# Altium schematic symbol library Connectors.SchLib: 25 symbols
Pins are listed as number, name and electrical type; pins without a type are passive.

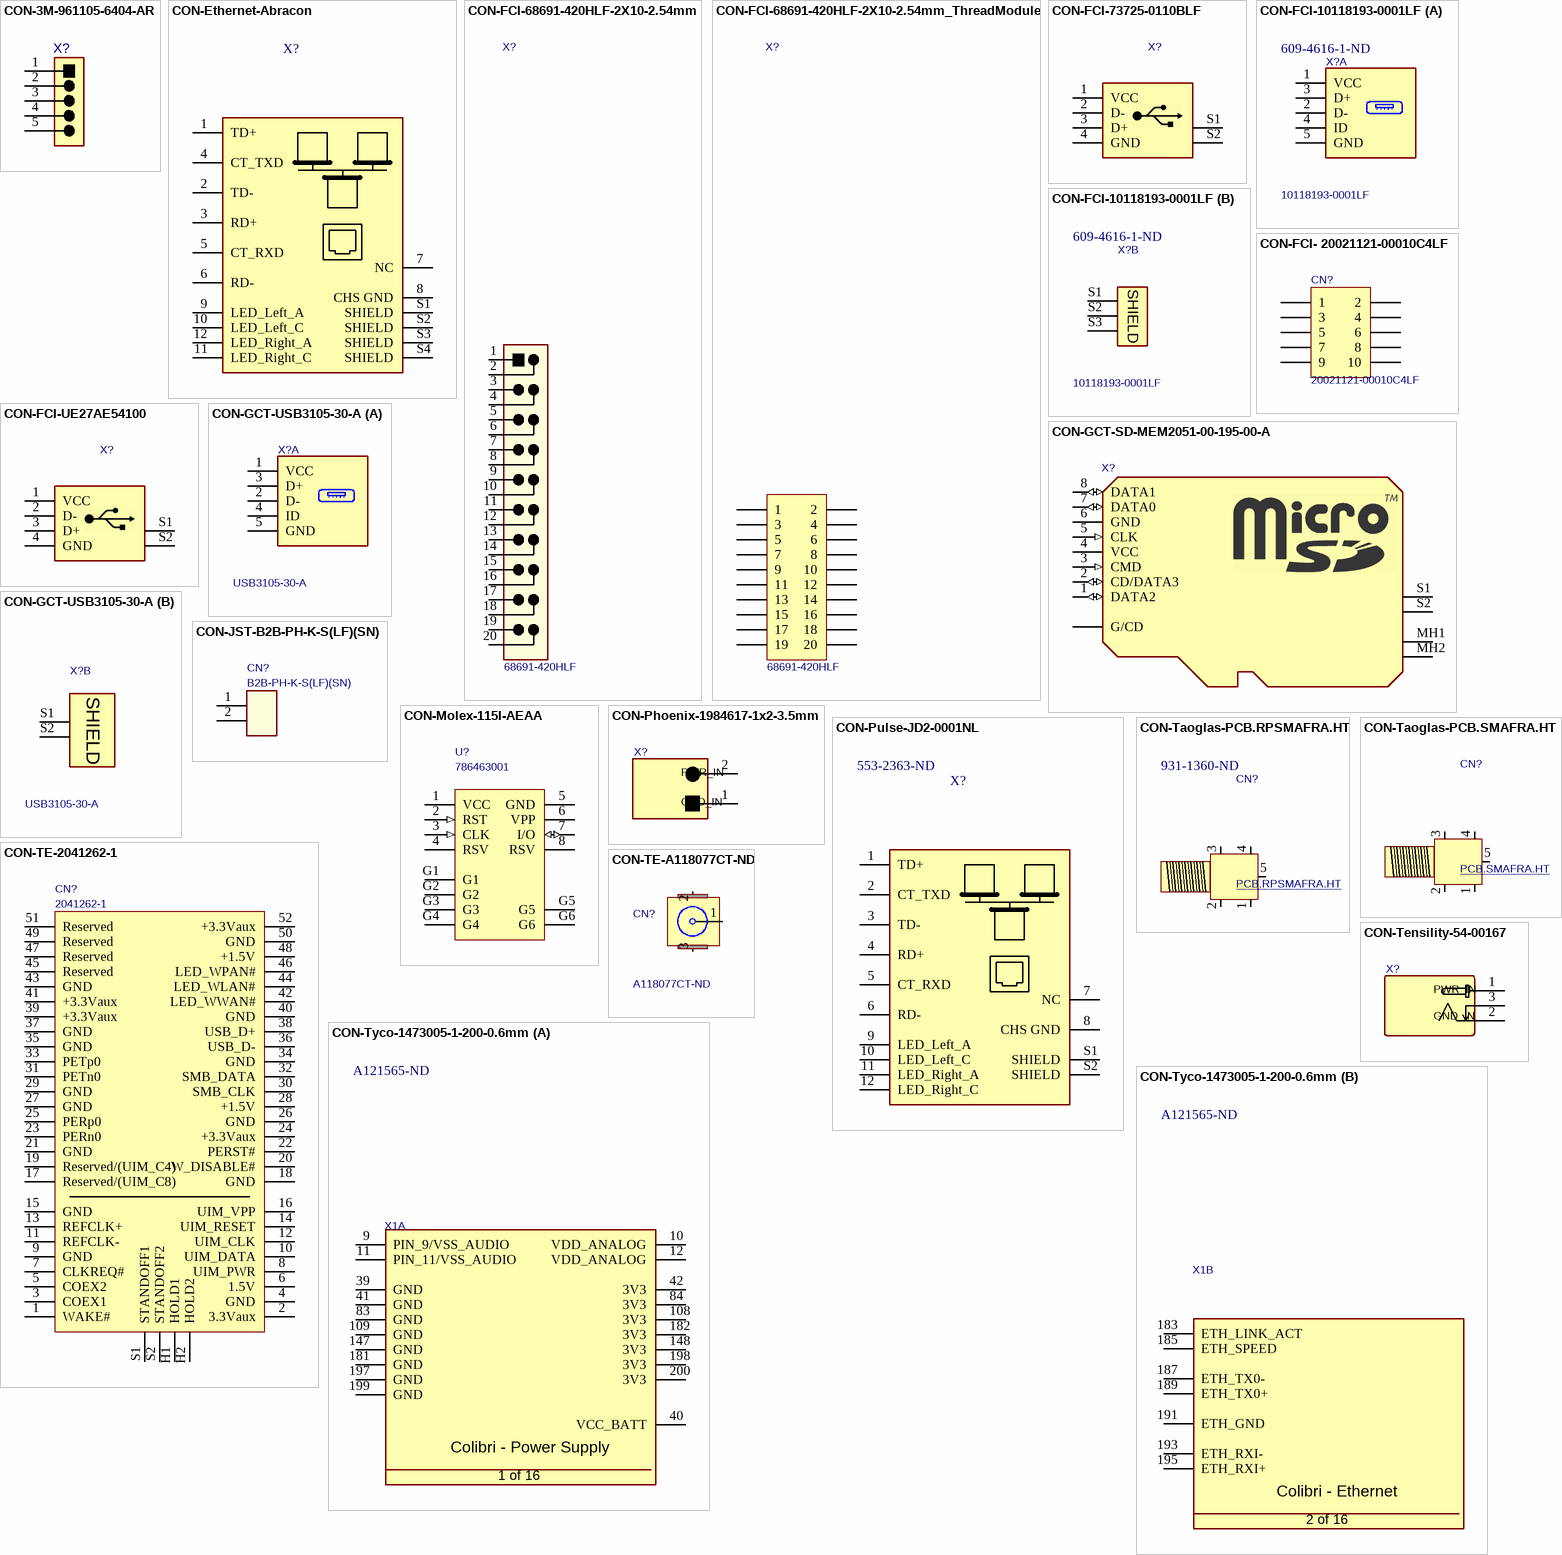
[diagram p0: symbols CON-3M-961105-6404-AR to CON-Tyco-1473005-1-200-0.6mm]

## CON-3M-961105-6404-AR
designator X?, comment 961105-6404-AR  (value not drawn)
Audio Header 5 pins 2.54mm; Manufacturer Name: 3M; No. of ways: 1X5; Pitch: 2.54mm; Supplier 1: Digi-Key; Supplier Part Number 1: 3M9457-05-ND; Manufacturer Part No.: 961105-6404-AR
footprint T_3M_961105-6404-AR (Connector; Header; 35 Position)
pins: 1, 2, 3, 4, 5

## CON-Ethernet-Abracon
designator X?, comment ARJM11C7-009-AB-ER2-T  (value not drawn)
1 Port RJ45 Magjack Connector Through Hole 10/100 Base-T, AutoMDIX; Manufacturer Name: Abracon; Manufacturer Part No.: ARJM11C7-009-AB-ER2-T; Symbol Checked: -; Footprint Checked: -; Supplier 1: Digi-Key; Supplier 2: Digi-Key; Supplier Part Number 1: 535-14134-1-ND; Supplier Part Number 2: 535-14135-1-ND
footprint T_PULSE_J00-0065NL (RJ45 Connector)
pins: 1 TD+, 2 TD-, 3 RD+, 4 CT_TXD, 5 CT_RXD, 6 RD-, 7 NC, 8 CHS GND, 9 LED_Left_A, 10 LED_Left_C, 11 LED_Right_C, 12 LED_Right_A, S1 SHIELD, S2 SHIELD, S3 SHIELD, S4 SHIELD

## CON-FCI-68691-420HLF-2X10-2.54mm
designator X?, comment 68691-420HLF
Connector Header Through Hole 20 position 0.100" (2.54mm); Manufacturer Name: FCI; No. of ways: 2X20; Supplier 1: Digi-Key; Supplier Part Number 1: 609-6378-ND; Manufacturer Part No.: 68691-420HLF
footprint T_JVE_21B22564-40S10B-01G (Header 2x20)
pins: 1, 2, 3, 4, 5, 6, 7, 8, 9, 10, 11, 12, 13, 14, 15, 16, 17, 18, 19, 20

## CON-FCI-68691-420HLF-2X10-2.54mm_ThreadModule
designator X?, comment 68691-420HLF
Connector Header Through Hole 20 position 0.100" (2.54mm); Manufacturer Name: FCI; No. of ways: 2X20; Supplier 1: Digi-Key; Supplier Part Number 1: 609-6378-ND; Manufacturer Part No.: 68691-420HLF
footprint T_JVE_21B22564-40S10B-01G - ThreadModule (Header 2x20)
pins: 1, 2, 3, 4, 5, 6, 7, 8, 9, 10, 11, 12, 13, 14, 15, 16, 17, 18, 19, 20

## CON-FCI-73725-0110BLF
designator X?, comment 73725-0110BLF  (value not drawn)
USB Type A Connector; Manufacturer Name: FCI; No. of ways: 4; Supplier 1: Digi-Key; Manufacturer Part No.: 73725-0110BLF; Supplier Part Number 1: 609-1041-ND
footprint T_FCI_73725-0110BLF (USB Type A Connector Vertical)
pins: 1 VCC (power), 2 D-, 3 D+, 4 GND (power), S1, S2

## CON-FCI-10118193-0001LF
designator X?, comment 10118193-0001LF  Supplier Part Number 1: 609-4616-1-ND
CONN RCPT USB2.0 MICRO B SMD R/A; Manufacturer Name: FCI; No. of ways: 5; Manufacturer Part No.: 10118193-0001LF; Supplier 1: Digi-Key
footprint CON-FCI-10118193-0001LF (USB - micro AB USB 2.0, 5 Position, Surface Mount, Right Angle, Horizontal)
part A pins: 1 VCC (power), 2 D-, 3 D+, 4 ID, 5 GND (power)
part B pins: S1 SHIELD, S2 SHIELD, S3 SHIELD

## CON-FCI- 20021121-00010C4LF
designator CN?, comment 20021121-00010C4LF
Connector Header Surface Mount 10 position 0.050" (1.27mm); Symbol Checked: Ok; MFG: Amphenol ICC (FCI); FP_DESC: Header, Male pins, 2x5, 0.1", Vertical; Replacement Allowed: Yes; Footprint Checked: Assign OK, Footprint OK; MFG_PN: 20021121-00010C4LF; Supplier 1: Digi-Key; Supplier Part Number 1: 609-3695-1-ND
footprint HDR2x5-0.1" (TH FEMALE PIN H8.1 P2.54)
pins: 1, 2, 3, 4, 5, 6, 7, 8, 9, 10

## CON-FCI-UE27AE54100
designator X?, comment UE27AE54100  (value not drawn)
USB Type A Connector; Manufacturer Name: FCI; No. of ways: 4; Manufacturer Part No.: UE27AE54100; Supplier 1: Digi-Key; Supplier Part Number 1: UE27AE54100-ND
footprint T_FCI_UE27AE54100 (USB Type A Connector Vertical)
pins: 1 VCC (power), 2 D-, 3 D+, 4 GND (power), S1, S2

## CON-GCT-SD-MEM2051-00-195-00-A
designator X?, comment MEM2051-00-195-00-A  (value not drawn)
9 (8 + 1) Position Card Connector microSD™ Surface Mount, Right Angle Gold; No. of ways: 9; MFG: GCT; MFG_PN: MEM2051-00-195-00-A; Footprint Checked: -; Symbol Checked: -; Supplier 1: Digi-Key; Supplier Part Number 1: 2073-MEM2051-00-195-00-ACT-ND
footprint 101-00660-68-6+MEM2051-00-195-00-A_REVC (FCI microSD connector)
pins: 1 DATA2 (io), 2 CD/DATA3 (io), 3 CMD (in), 4 VCC, 5 CLK (in), 6 GND (power), 7 DATA0 (io), 8 DATA1 (io), G1 G/CD, MH1 S, MH2 S, S1, S2

## CON-GCT-USB3105-30-A
designator X?, comment USB3105-30-A
Micro USB OTG Connector - TH - Vertical; Manufacturer Name: GCT; No. of ways: 5; Supplier 1: Digi-Key; Supplier 2: Digi-Key; Supplier 3: Digi-Key; Supplier Part Number 1: 2073-USB3105-30-ADKR-ND; Supplier Part Number 2: 2073-USB3105-30-ATR-ND; Supplier Part Number 3: 2073-USB3105-30-ACT-ND; Manufacturer Part No.: USB3105-30-A
footprint T_GCT_USB3105-30-A (Micro USB Connector Vertical)
part A pins: 1 VCC (power), 2 D-, 3 D+, 4 ID, 5 GND (power)
part B pins: S1 SHIELD, S2 SHIELD

## CON-JST-B2B-PH-K-S(LF)(SN)
designator CN?, comment B2B-PH-K-S(LF)(SN)
Connector Header Through Hole 2 position 0.079" (2.00mm); MFG: JST; FP_DESC: Header, Male pins, 1x2, 2mm, Vertical; Symbol Checked: Ok; Replacement Allowed: Ask; MFG_PN: B2B-PH-K-S(LF)(SN); Footprint Checked: Assign OK, Footprint OK; Supplier 1: Digi-Key; Supplier Part Number 1: 455-1704-ND
footprint B2B-PH-K-S(LF)(SN) - duplicate
pins: 1, 2

## CON-Molex-115I-AEAA
designator U?, comment 786463001
Mixro SIM Card Push-Pull; FP_DESC: microSIM card holder; MFG: MOLEX; Symbol Checked: Ok; Replacement Allowed: Ask; MFG_PN: 786463001; Footprint Checked: Assign OK, Footprint OK; Supplier 1: Digi-Key; Supplier Part Number 1: WM9364CT-ND
footprint 786463001
pins: 1 VCC (power), 2 RST (in), 3 CLK (in), 4 RSV, 5 GND (power), 6 VPP (power), 7 I/O (io), 8 RSV, G1, G2, G3, G4, G5, G6

## CON-Phoenix-1984617-1x2-3.5mm
designator X?, comment 1984617  (value not drawn)
2 Position Wire to Board Terminal Block Horizontal with Board 0.138" (3.50mm) Through Hole; Manufacturer Name: Phoenix Contact; No. of ways: 1x2; Pitch: 3.5mm; Manufacturer Part No.: 1984617; Supplier 1: Digi-Key; Supplier Part Number 1: 277-1721-ND
footprint TERM-BLK-3.5MM
pins: 1 GND_IN, 2 PWR_IN

## CON-Pulse-JD2-0001NL
designator X?, comment Supplier Part Number 1: 553-2363-ND  (hidden comment: JD2-0001NL)
1 Port RJ45 Magjack Connector Through Hole 10/100 Base-TX, AutoMDIX; Manufacturer Name: Pulse Electronics Network; Manufacturer Part No.: J00-0065NL; Symbol Checked: -; Footprint Checked: -; Supplier 1: Digi-Key
footprint T_PULSE_JD2-0001NL (RJ45 Connector)
pins: 1 TD+, 2 CT_TXD, 3 TD-, 4 RD+, 5 CT_RXD, 6 RD-, 7 NC, 8 CHS GND, 9 LED_Left_A, 10 LED_Left_C, 11 LED_Right_A, 12 LED_Right_C, S1 SHIELD, S2 SHIELD

## CON-Taoglas-PCB.RPSMAFRA.HT
designator CN?, comment PCB.RPSMAFRA.HT  Supplier Part Number 1: 931-1360-ND
RP-SMA Conector Jack, clavija macho 50Ohm Orificio pasante, ángulo recto Soldadura; FP_DESC: SMA, Right angle; MFG: Taoglas Limited; Symbol Checked: Ok; Replacement Allowed: Ask; Footprint Checked: Assign OK, Footprint OK; MFG_PN: PCB.RPSMAFRA.HT; Supplier 1: Digi-Key
footprint 0733910320 (RPSMA)
pins: 1 GND, 2 GND, 3 GND, 4 GND, 5 SIG

## CON-Taoglas-PCB.SMAFRA.HT
designator CN?, comment PCB.SMAFRA.HT
SMA Connector Jack, Female Socket 50Ohm Through Hole, Right Angle Solder; FP_DESC: SMA, Right angle; MFG: Taoglas Limited; Symbol Checked: Ok; Replacement Allowed: Ask; Footprint Checked: Assign OK, Footprint OK; Supplier 1: Digi-Key; Supplier Part Number 1: 931-1361-ND; MFG_PN: PCB.SMAFRA.HT
footprint 0733910320 (RPSMA)
pins: 1 GND, 2 GND, 3 GND, 4 GND, 5 SIG

## CON-TE-2041262-1
designator CN?, comment 2041262-1
52 Position Female Connector PCI Express Mini Card Gold 0.031" (0.80mm) Black; FP_DESC: miniPCIe; MFG: TE; Replacement Allowed: Ask; MFG_PN: 2041262-1; Footprint Checked: -; Symbol Checked: -; ComponentLink1Description: BG95; ComponentLink1URL: https://www.quectel.com/UploadImage/Downlad/Quectel_BG95-M3_Mini_PCIe_Hardware_Design_V1.0.pdf; Supplier 1: Digi-Key; Supplier Part Number 1: A125147CT-ND
footprint 2041262-1
pins: 1 WAKE#, 2 3.3Vaux, 3 COEX1, 4 GND, 5 COEX2, 6 1.5V, 7 CLKREQ#, 8 UIM_PWR, 9 GND, 10 UIM_DATA, 11 REFCLK-, 12 UIM_CLK, 13 REFCLK+, 14 UIM_RESET, 15 GND, 16 UIM_VPP, 17 Reserved/(UIM_C8), 18 GND, 19 Reserved/(UIM_C4), 20 W_DISABLE#, 21 GND, 22 PERST#, 23 PERn0, 24 +3.3Vaux, 25 PERp0, 26 GND, 27 GND, 28 +1.5V, 29 GND, 30 SMB_CLK, 31 PETn0, 32 SMB_DATA, 33 PETp0, 34 GND, 35 GND, 36 USB_D-, 37 GND, 38 USB_D+, 39 +3.3Vaux, 40 GND, 41 +3.3Vaux, 42 LED_WWAN#, 43 GND, 44 LED_WLAN#, 45 Reserved, 46 LED_WPAN#, 47 Reserved, 48 +1.5V, 49 Reserved, 50 GND, 51 Reserved, 52 +3.3Vaux, H1 HOLD1, H2 HOLD2, S1 STANDOFF1, S2 STANDOFF2

## CON-TE-A118077CT-ND
designator CN?, comment A118077CT-ND
U.FL (UMCC) Connector Jack, Male Pin 50Ohm Surface Mount Solder; MFG: TE Connectivity AMP Connectors; FP_DESC: U.FL connector; Symbol Checked: Ok; Replacement Allowed: Ask; MFG_PN: A118077CT-ND; Footprint Checked: Assign OK, Footprint OK; Supplier 1: Digi-Key; Supplier Part Number 1: A118077DKR-ND
footprint U.FL-R-SMT-1
pins: 1 SIG, 2 GND, 3 GND

## CON-Tensility-54-00167
designator X?, comment 54-00167  (value not drawn)
Power Barrel Connector Jack 2.50mm ID (0.098"), 5.50mm OD (0.217") Through Hole, Right Angle; Manufacturer Name: Tensility International Corp; Manufacturer Part No.: 54-00167; Supplier 1: Digi-Key; Supplier Part Number 1: 839-54-00167-ND
footprint PJ-002A
pins: 1 GND_IN, 2 PWR_IN, 3 PWR_IN

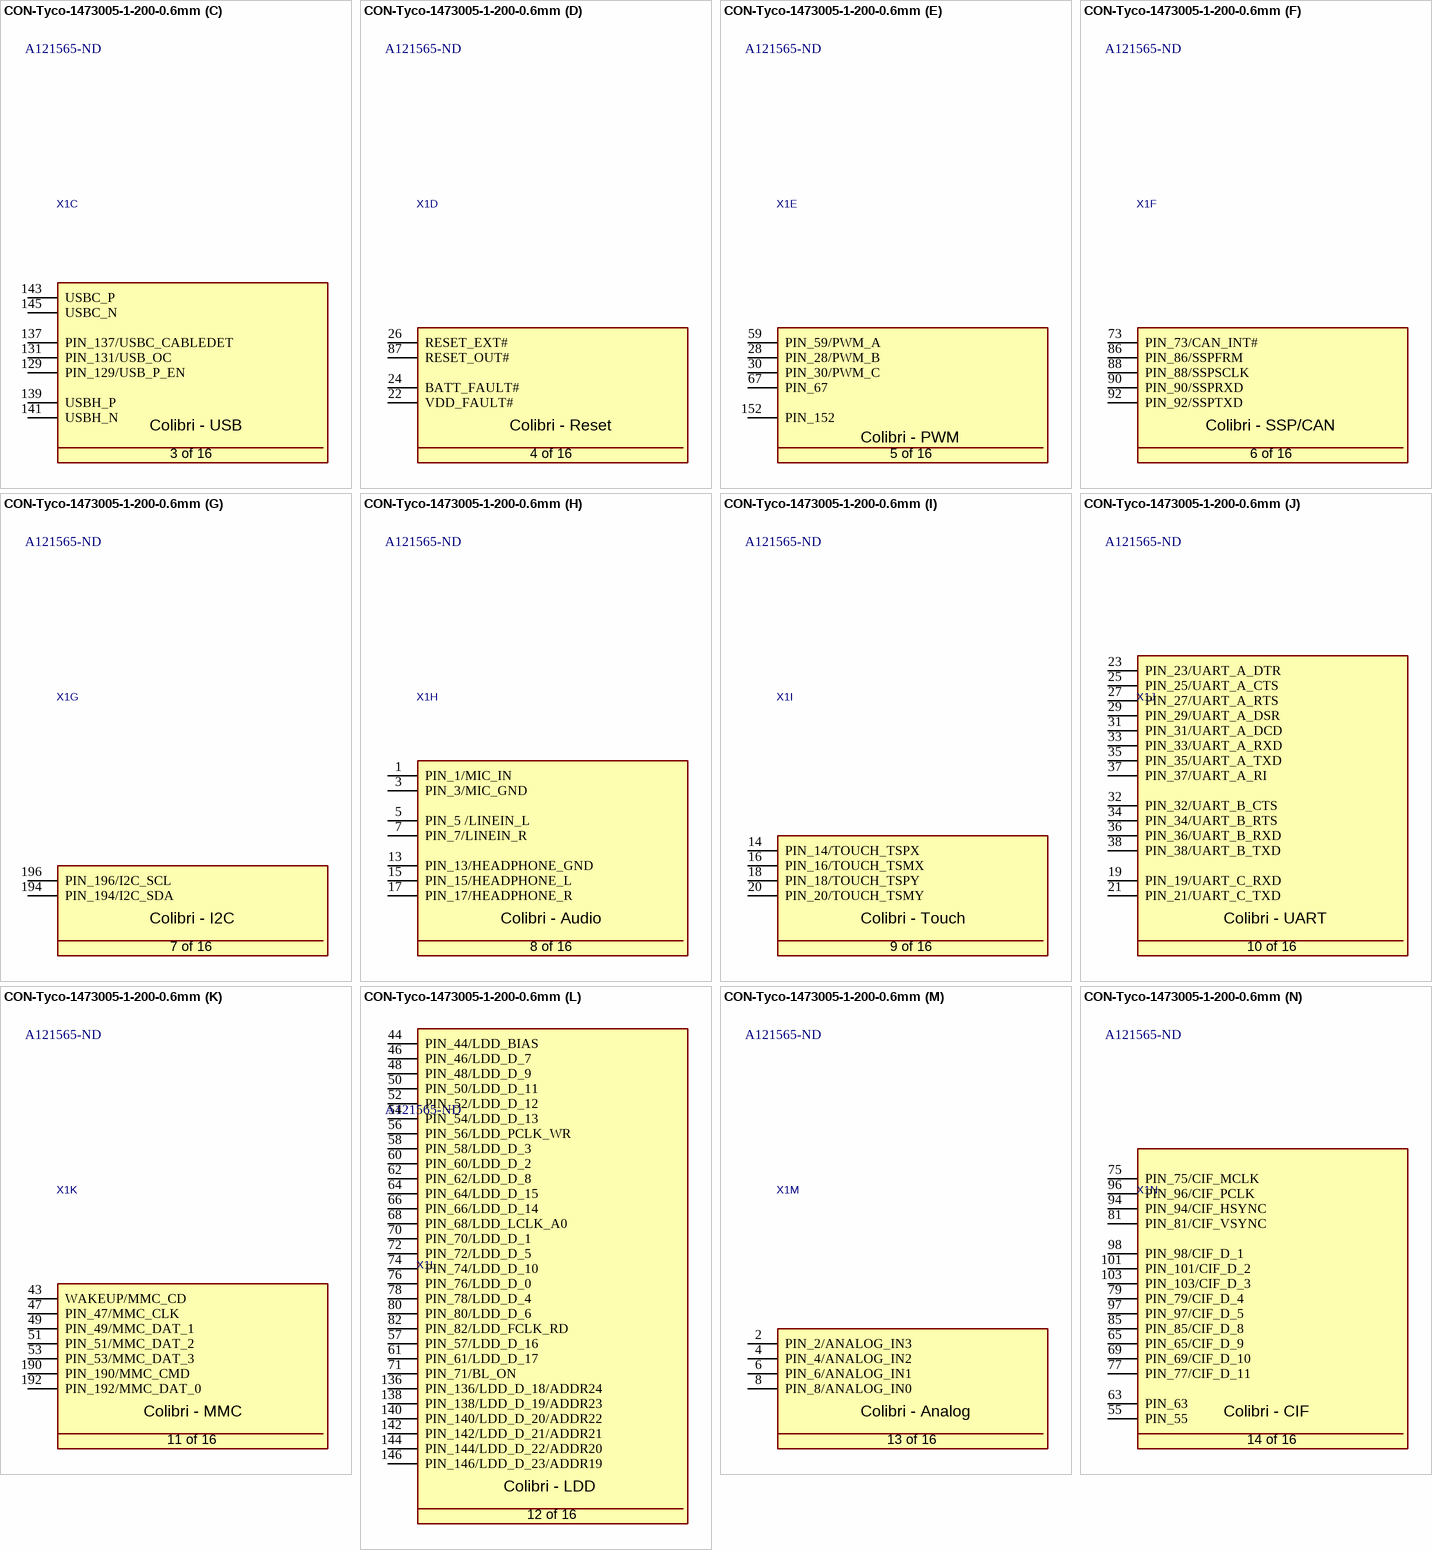
[diagram p1: symbol CON-Tyco-1473005-1-200-0.6mm]

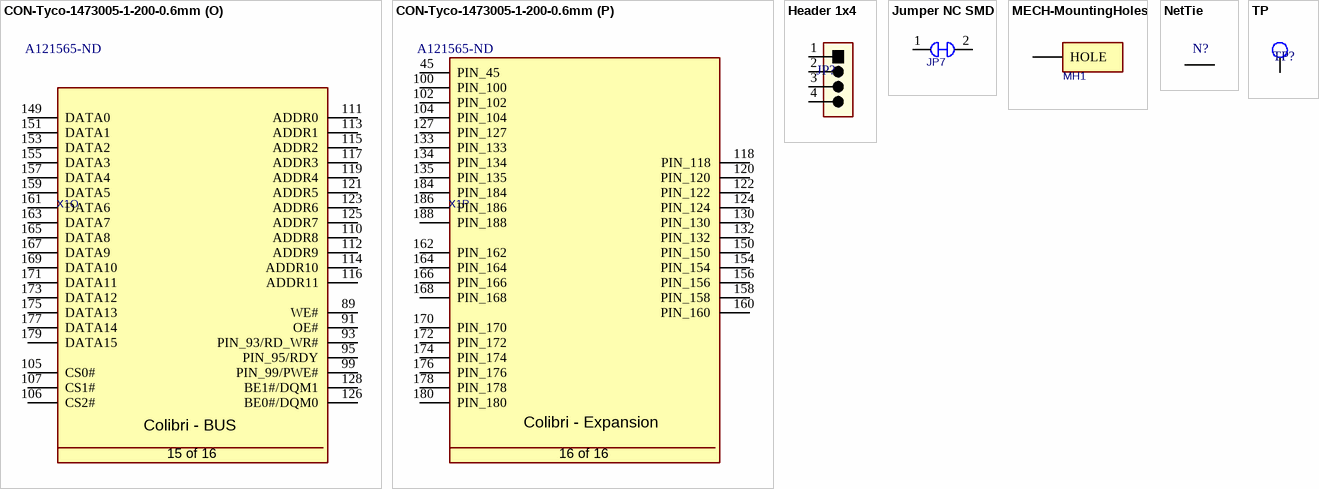
[diagram p2: symbols CON-Tyco-1473005-1-200-0.6mm to TP]

## CON-Tyco-1473005-1-200-0.6mm
designator X1, comment Supplier Part Number 1: A121565-ND  (hidden comment: 1473005-1)
SODIMM Connector; Manufacturer Name: Tyco; No. of ways: 200; Manufacturer Part No.: 1473005-1; Supplier 1: Digi-Key
footprint T_Tyco_1473005-1 (SODIMM Connector)
footprint T_Tyco_1612618-1 (SODIMM Connector)
part A pins: 9 PIN_9/VSS_AUDIO, 10 VDD_ANALOG, 11 PIN_11/VSS_AUDIO, 12 VDD_ANALOG, 39 GND (power), 40 VCC_BATT (power), 41 GND (power), 42 3V3 (power), 83 GND (power), 84 3V3 (power), 108 3V3, 109 GND (power), 147 GND (power), 148 3V3, 181 GND (power), 182 3V3 (power), 197 GND (power), 198 3V3 (power), 199 GND (power), 200 3V3 (power)
part B pins: 183 ETH_LINK_ACT, 185 ETH_SPEED, 187 ETH_TX0-, 189 ETH_TX0+, 191 ETH_GND, 193 ETH_RXI-, 195 ETH_RXI+
part C pins: 129 PIN_129/USB_P_EN, 131 PIN_131/USB_OC, 137 PIN_137/USBC_CABLEDET, 139 USBH_P, 141 USBH_N, 143 USBC_P, 145 USBC_N
part D pins: 22 VDD_FAULT#, 24 BATT_FAULT#, 26 RESET_EXT#, 87 RESET_OUT#
part E pins: 28 PIN_28/PWM_B, 30 PIN_30/PWM_C, 59 PIN_59/PWM_A, 67 PIN_67, 152 PIN_152
part F pins: 73 PIN_73/CAN_INT#, 86 PIN_86/SSPFRM, 88 PIN_88/SSPSCLK, 90 PIN_90/SSPRXD, 92 PIN_92/SSPTXD
part G pins: 194 PIN_194/I2C_SDA, 196 PIN_196/I2C_SCL
part H pins: 1 PIN_1/MIC_IN, 3 PIN_3/MIC_GND, 5 PIN_5 /LINEIN_L, 7 PIN_7/LINEIN_R, 13 PIN_13/HEADPHONE_GND, 15 PIN_15/HEADPHONE_L, 17 PIN_17/HEADPHONE_R
part I pins: 14 PIN_14/TOUCH_TSPX, 16 PIN_16/TOUCH_TSMX, 18 PIN_18/TOUCH_TSPY, 20 PIN_20/TOUCH_TSMY
part J pins: 19 PIN_19/UART_C_RXD, 21 PIN_21/UART_C_TXD, 23 PIN_23/UART_A_DTR, 25 PIN_25/UART_A_CTS, 27 PIN_27/UART_A_RTS, 29 PIN_29/UART_A_DSR, 31 PIN_31/UART_A_DCD, 32 PIN_32/UART_B_CTS, 33 PIN_33/UART_A_RXD, 34 PIN_34/UART_B_RTS, 35 PIN_35/UART_A_TXD, 36 PIN_36/UART_B_RXD, 37 PIN_37/UART_A_RI, 38 PIN_38/UART_B_TXD
part K pins: 43 WAKEUP/MMC_CD, 47 PIN_47/MMC_CLK, 49 PIN_49/MMC_DAT_1, 51 PIN_51/MMC_DAT_2, 53 PIN_53/MMC_DAT_3, 190 PIN_190/MMC_CMD, 192 PIN_192/MMC_DAT_0
part L pins: 44 PIN_44/LDD_BIAS, 46 PIN_46/LDD_D_7, 48 PIN_48/LDD_D_9, 50 PIN_50/LDD_D_11, 52 PIN_52/LDD_D_12, 54 PIN_54/LDD_D_13, 56 PIN_56/LDD_PCLK_WR, 57 PIN_57/LDD_D_16, 58 PIN_58/LDD_D_3, 60 PIN_60/LDD_D_2, 61 PIN_61/LDD_D_17, 62 PIN_62/LDD_D_8, 64 PIN_64/LDD_D_15, 66 PIN_66/LDD_D_14, 68 PIN_68/LDD_LCLK_A0, 70 PIN_70/LDD_D_1, 71 PIN_71/BL_ON, 72 PIN_72/LDD_D_5, 74 PIN_74/LDD_D_10, 76 PIN_76/LDD_D_0, 78 PIN_78/LDD_D_4, 80 PIN_80/LDD_D_6, 82 PIN_82/LDD_FCLK_RD, 136 PIN_136/LDD_D_18/ADDR24, 138 PIN_138/LDD_D_19/ADDR23, 140 PIN_140/LDD_D_20/ADDR22, 142 PIN_142/LDD_D_21/ADDR21, 144 PIN_144/LDD_D_22/ADDR20, 146 PIN_146/LDD_D_23/ADDR19
part M pins: 2 PIN_2/ANALOG_IN3, 4 PIN_4/ANALOG_IN2, 6 PIN_6/ANALOG_IN1, 8 PIN_8/ANALOG_IN0
part N pins: 55 PIN_55, 63 PIN_63, 65 PIN_65/CIF_D_9, 69 PIN_69/CIF_D_10, 75 PIN_75/CIF_MCLK, 77 PIN_77/CIF_D_11, 79 PIN_79/CIF_D_4, 81 PIN_81/CIF_VSYNC, 85 PIN_85/CIF_D_8, 94 PIN_94/CIF_HSYNC, 96 PIN_96/CIF_PCLK, 97 PIN_97/CIF_D_5, 98 PIN_98/CIF_D_1, 101 PIN_101/CIF_D_2, 103 PIN_103/CIF_D_3
part O pins: 89 WE#, 91 OE#, 93 PIN_93/RD_WR#, 95 PIN_95/RDY, 99 PIN_99/PWE#, 105 CS0#, 106 CS2#, 107 CS1#, 110 ADDR8, 111 ADDR0, 112 ADDR9, 113 ADDR1, 114 ADDR10, 115 ADDR2, 116 ADDR11, 117 ADDR3, 119 ADDR4, 121 ADDR5, 123 ADDR6, 125 ADDR7, 126 BE0#/DQM0, 128 BE1#/DQM1, 149 DATA0, 151 DATA1, 153 DATA2, 155 DATA3, 157 DATA4, 159 DATA5, 161 DATA6, 163 DATA7, 165 DATA8, 167 DATA9, 169 DATA10, 171 DATA11, 173 DATA12, 175 DATA13, 177 DATA14, 179 DATA15
part P pins: 45 PIN_45, 100 PIN_100, 102 PIN_102, 104 PIN_104, 118 PIN_118, 120 PIN_120, 122 PIN_122, 124 PIN_124, 127 PIN_127, 130 PIN_130, 132 PIN_132, 133 PIN_133, 134 PIN_134, 135 PIN_135, 150 PIN_150, 154 PIN_154, 156 PIN_156, 158 PIN_158, 160 PIN_160, 162 PIN_162, 164 PIN_164, 166 PIN_166, 168 PIN_168, 170 PIN_170, 172 PIN_172, 174 PIN_174, 176 PIN_176, 178 PIN_178, 180 PIN_180, 184 PIN_184, 186 PIN_186, 188 PIN_188
part A text: Colibri - Power Supply; 1 of 16
part B text: Colibri - Ethernet; 2 of 16
part C text: Colibri - USB; 3 of 16
part D text: Colibri - Reset; 4 of 16
part E text: Colibri - PWM; 5 of 16
part F text: Colibri - SSP/CAN; 6 of 16
part G text: Colibri - I2C; 7 of 16
part H text: Colibri - Audio; 8 of 16
part I text: Colibri - Touch; 9 of 16
part J text: Colibri - UART; 10 of 16
part K text: Colibri - MMC; 11 of 16
part L text: Colibri - LDD; 12 of 16
part M text: Colibri - Analog; 13 of 16
part N text: Colibri - CIF; 14 of 16
part O text: Colibri - BUS; 15 of 16
part P text: Colibri - Expansion; 16 of 16

## Header 1x4
designator JP?, comment TSW-101-07-G-D  (value not drawn)
Header male, 1x4 Pins, 2.54 mm pitch; Manufacturer Name: Samtec; No. of ways: 1x2; Pitch: 2.54 mm; Manufacturer Part no.: TSW-101-07-G-D
footprint Header 1x4, 2.54mm pitch, male
pins: 1, 2, 3, 4

## Jumper NC SMD
designator JP7  (value not drawn)
SMD jumper normally closed; Footprint Checked: -; Symbol Checked: -
footprint NC
pins: 1, 2

## MECH-MountingHoles
designator MH1  (value not drawn)  (no BOM)
PCB Mounting Holes, hole diemeter = 3.2mm, pad diameter = 6.2mm
footprint T_MountingHoles (PCB Mounting Holes)
pins: 1 HOLE

## NetTie
designator N?  (value not drawn)  (net tie, no BOM)
pins: 1, 2

## TP
designator TP?, comment Test point  (value not drawn)  (no BOM)
footprint TP
pins: 1